# Altium footprint library ENG_CVM_967392-4_L5.3d.PcbLib: 1 footprints
Each footprint in its own frame and in the unit in brackets; x right, y up, seen from the top. Pads: shape width x height; smd on the part's side, far side on the other; paste and mask are expansions set on the pad; w line width, h text height; cw(c..) or ccw(c..) is an arc to the next point about the centre after c.
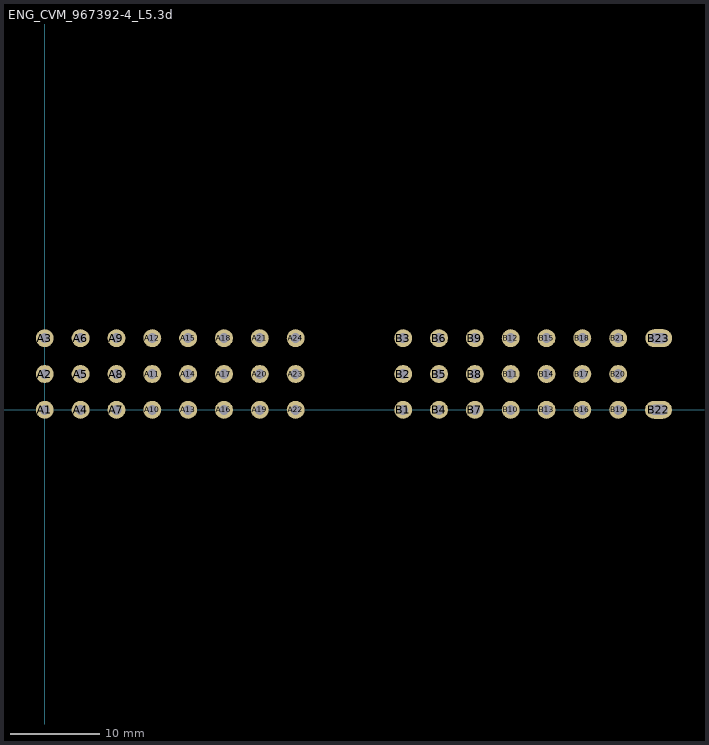
[diagram p0: the footprint, top view; thin cyan lines are the x and y axes]

## ENG_CVM_967392-4_L5.3d [mm]
pads (47):
  round 2 hole 1.1: A1(0,0) A2(0,4) A3(0,8) A4(4,0) A5(4,4) A6(4,8) A7(8,0) A8(8,4) A9(8,8) A10(12,0) A11(12,4) A12(12,8) A13(16,0) A14(16,4) A15(16,8) A16(20,0) A17(20,4) A18(20,8) A19(24,0) A20(24,4) A21(24,8) A22(28,0) A23(28,4) A24(28,8) B1(40,0) B2(40,4) B3(40,8) B4(44,0) B5(44,4) B6(44,8) B7(48,0) B8(48,4) B9(48,8) B10(52,0) B11(52,4) B12(52,8) B13(56,0) B14(56,4) B15(56,8) B16(60,0) B17(60,4) B18(60,8) B19(64,0) B20(64,4) B21(64,8)
  oval 3x2 hole 1.1 slot 2 at 0 deg: B22(68.5,0) B23(68.525,8)
3D body "c-0967392-04-l5-3d.stp": height 27.25, standoff -2.95, extent -7.025,-25.2 74.275,9.8